# EAGLE library part ?M08B-SRSS-TB (library jack_connector)
Disconnectable Crimp style connector, 1.0mm pitch 8 contacts
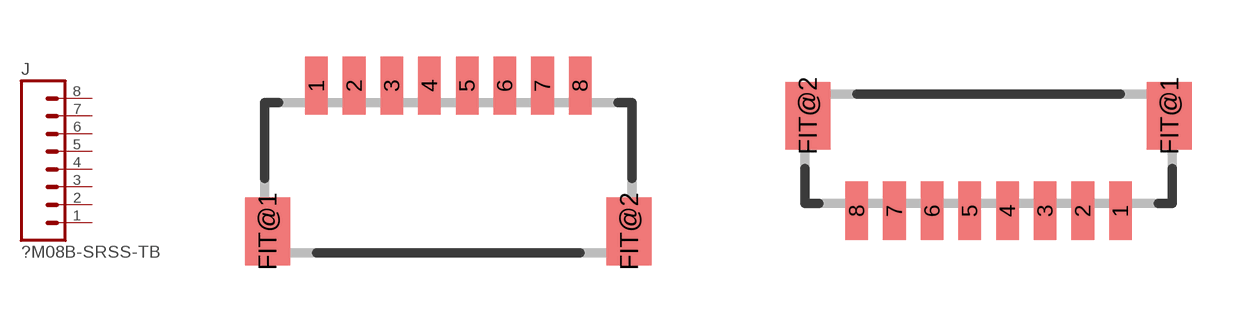
[diagram p7: symbol with the pads of SM08B-SRSS-TB; footprints SM08B-SRSS-TB, BM08B-SRSS-TB]

Designator prefix J

## SM08B-SRSS-TB  [SM08B-SRSS-TB]
1  1  pas
2  2  pas
3  3  pas
4  4  pas
5  5  pas
6  6  pas
7  7  pas
8  8  pas

## BM08B-SRSS-TB  [BM08B-SRSS-TB]
Pads as for SM08B-SRSS-TB

## Footprint SM08B-SRSS-TB (pad centres in mm)
Shrouded Header, side entry type https://www.digikey.com/product-detail/en/jst-sales-america-inc/SM08B-SRSS-TB-LF-SN/455-1808-1-ND/926879
smd 0.6 x 1.55: 1 -3.5,2.975; 2 -2.5,2.975; 3 -1.5,2.975; 4 -0.5,2.975; 5 0.5,2.975; 6 1.5,2.975; 7 2.5,2.975; 8 3.5,2.975
smd 1.2 x 1.8: FIT@1 -4.8,-0.9; FIT@2 4.8,-0.9

## Footprint BM08B-SRSS-TB (pad centres in mm)
Shrouded Header, top entry type https://www.digikey.com/product-detail/en/jst-sales-america-inc/BM08B-SRSS-TB-LF-SN/455-1794-1-ND/926865
smd 0.6 x 1.55: 1 3.5,-1.625; 2 2.5,-1.625; 3 1.5,-1.625; 4 0.5,-1.625; 5 -0.5,-1.625; 6 -1.5,-1.625; 7 -2.5,-1.625; 8 -3.5,-1.625
smd 1.2 x 1.8: FIT@1 4.8,0.9; FIT@2 -4.8,0.9